# EAGLE library part PINHEAD-9 (library chuong)
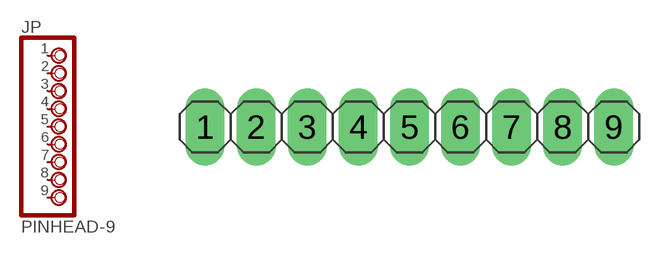
[diagram p44: symbol with the pads of PINHEAD-9; footprint PINHEAD-9]

Designator prefix JP

## PINHEAD-9  [PINHEAD-9]
1  1  pas
2  2  pas
3  3  pas
4  4  pas
5  5  pas
6  6  pas
7  7  pas
8  8  pas
9  9  pas

## Footprint PINHEAD-9 (pad centres in mm)
drill 0.813 pad 1.93 long: 1 -8.89,0; 2 -6.35,0; 3 -3.81,0; 4 -1.27,0; 5 1.27,0; 6 3.81,0; 7 6.35,0; 8 8.89,0; 9 11.43,0